# Altium schematic symbol library con-amp-micromatch-8-vias.SCHLIB: 108 symbols (part 1 of 3)
Pins are listed as number, name and electrical type; pins without a type are passive.

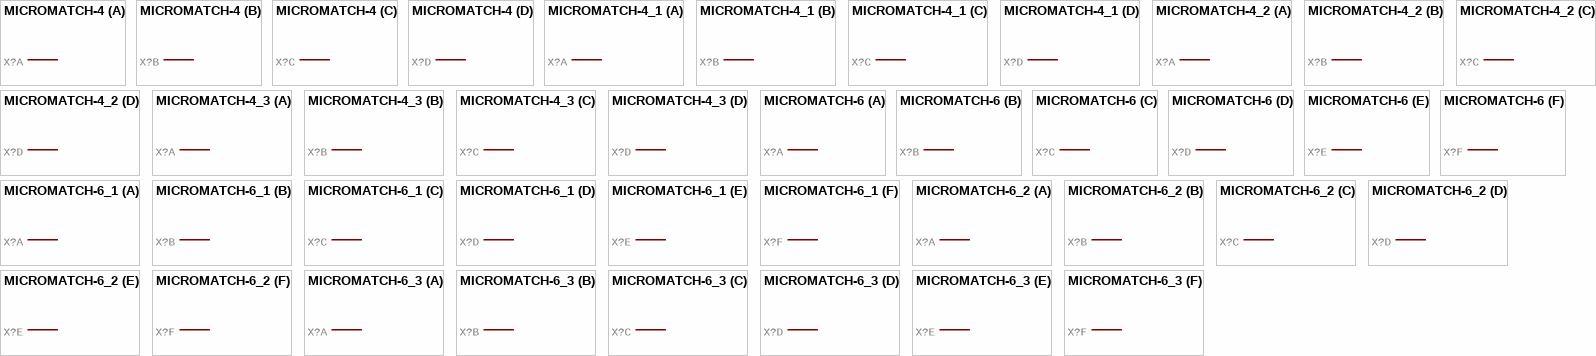
[diagram p0: symbols MICROMATCH-4 to MICROMATCH-6_3]

## MICROMATCH-4
designator X?, comment MicroMaTch 4  7-215464-4 / 0-215464-4   Drawing Number C-215464 DDEController.pdf  (value not drawn)
GateName_1: -1; SymbolName_1: MV; GateName_2: -2; SymbolName_2: M; GateName_3: -3; GateName_4: -4; DeviceSetName: MICROMATCH-4; SymbolName_3: M; SymbolName_4: M; LibraryName: con-amp-micromatch-8-vias; Package: MICROMATCH-4; MPN: 7-215464-4; OC_FARNELL: 3784629; OC_NEWARK: 19R8124
footprint MICROMATCH-4
part A pins: 1 S
part B pins: 2 S
part C pins: 3 S
part D pins: 4 S

## MICROMATCH-4_1
designator X?, comment MicroMaTch 4  7-215464-4 / 0-215464-4   Drawing Number C-215464 DDEController.pdf  (value not drawn)
GateName_1: -1; SymbolName_1: MV; GateName_2: -2; SymbolName_2: M; GateName_3: -3; GateName_4: -4; DeviceSetName: MICROMATCH-4; SymbolName_3: M; SymbolName_4: M; LibraryName: con-amp-micromatch-8-vias; Package: MICROMATCH-4; MPN: 7-215464-4; OC_FARNELL: 3784629; OC_NEWARK: 19R8124
footprint MICROMATCH-4
part A pins: 1 S
part B pins: 2 S
part C pins: 3 S
part D pins: 4 S

## MICROMATCH-4_2
designator X?, comment MicroMaTch 4  7-215464-4 / 0-215464-4   Drawing Number C-215464 DDEController.pdf  (value not drawn)
GateName_1: -1; SymbolName_1: MV; GateName_2: -2; SymbolName_2: M; GateName_3: -3; GateName_4: -4; DeviceSetName: MICROMATCH-4; SymbolName_3: M; SymbolName_4: M; LibraryName: con-amp-micromatch-8-vias; Package: MICROMATCH-4; MPN: 7-215464-4; OC_FARNELL: 3784629; OC_NEWARK: 19R8124
footprint MICROMATCH-4
part A pins: 1 S
part B pins: 2 S
part C pins: 3 S
part D pins: 4 S

## MICROMATCH-4_3
designator X?, comment MicroMaTch 4  7-215464-4 / 0-215464-4   Drawing Number C-215464 DDEController.pdf  (value not drawn)
GateName_1: -1; SymbolName_1: MV; GateName_2: -2; SymbolName_2: M; GateName_3: -3; GateName_4: -4; DeviceSetName: MICROMATCH-4; SymbolName_3: M; SymbolName_4: M; LibraryName: con-amp-micromatch-8-vias; Package: MICROMATCH-4; MPN: 7-215464-4; OC_FARNELL: 3784629; OC_NEWARK: 19R8124
footprint MICROMATCH-4
part A pins: 1 S
part B pins: 2 S
part C pins: 3 S
part D pins: 4 S

## MICROMATCH-6
designator X?, comment MicroMaTch 6  7-215464-6 / 0-215464-6   Drawing Number C-215464 DDEController.pdf  (value not drawn)
GateName_1: -1; SymbolName_1: MV; GateName_2: -2; SymbolName_2: M; GateName_3: -3; GateName_4: -4; GateName_5: -5; GateName_6: -6; DeviceSetName: MICROMATCH-6; SymbolName_3: M; SymbolName_4: M; SymbolName_5: M; SymbolName_6: M; LibraryName: con-amp-micromatch-8-vias; Package: MICROMATCH-6; MPN: 7-215464-6; OC_FARNELL: 3784630; OC_NEWARK: 19R8125
footprint MICROMATCH-6
part A pins: 1 S
part B pins: 2 S
part C pins: 3 S
part D pins: 4 S
part E pins: 5 S
part F pins: 6 S

## MICROMATCH-6_1
designator X?, comment MicroMaTch 6  7-215464-6 / 0-215464-6   Drawing Number C-215464 DDEController.pdf  (value not drawn)
GateName_1: -1; SymbolName_1: MV; GateName_2: -2; SymbolName_2: M; GateName_3: -3; GateName_4: -4; GateName_5: -5; GateName_6: -6; DeviceSetName: MICROMATCH-6; SymbolName_3: M; SymbolName_4: M; SymbolName_5: M; SymbolName_6: M; LibraryName: con-amp-micromatch-8-vias; Package: MICROMATCH-6; MPN: 7-215464-6; OC_FARNELL: 3784630; OC_NEWARK: 19R8125
footprint MICROMATCH-6
part A pins: 1 S
part B pins: 2 S
part C pins: 3 S
part D pins: 4 S
part E pins: 5 S
part F pins: 6 S

## MICROMATCH-6_2
designator X?, comment MicroMaTch 6  7-215464-6 / 0-215464-6   Drawing Number C-215464 DDEController.pdf  (value not drawn)
GateName_1: -1; SymbolName_1: MV; GateName_2: -2; SymbolName_2: M; GateName_3: -3; GateName_4: -4; GateName_5: -5; GateName_6: -6; DeviceSetName: MICROMATCH-6; SymbolName_3: M; SymbolName_4: M; SymbolName_5: M; SymbolName_6: M; LibraryName: con-amp-micromatch-8-vias; Package: MICROMATCH-6; MPN: 7-215464-6; OC_FARNELL: 3784630; OC_NEWARK: 19R8125
footprint MICROMATCH-6
part A pins: 1 S
part B pins: 2 S
part C pins: 3 S
part D pins: 4 S
part E pins: 5 S
part F pins: 6 S

## MICROMATCH-6_3
designator X?, comment MicroMaTch 6  7-215464-6 / 0-215464-6   Drawing Number C-215464 DDEController.pdf  (value not drawn)
GateName_1: -1; SymbolName_1: MV; GateName_2: -2; SymbolName_2: M; GateName_3: -3; GateName_4: -4; GateName_5: -5; GateName_6: -6; DeviceSetName: MICROMATCH-6; SymbolName_3: M; SymbolName_4: M; SymbolName_5: M; SymbolName_6: M; LibraryName: con-amp-micromatch-8-vias; Package: MICROMATCH-6; MPN: 7-215464-6; OC_FARNELL: 3784630; OC_NEWARK: 19R8125
footprint MICROMATCH-6
part A pins: 1 S
part B pins: 2 S
part C pins: 3 S
part D pins: 4 S
part E pins: 5 S
part F pins: 6 S

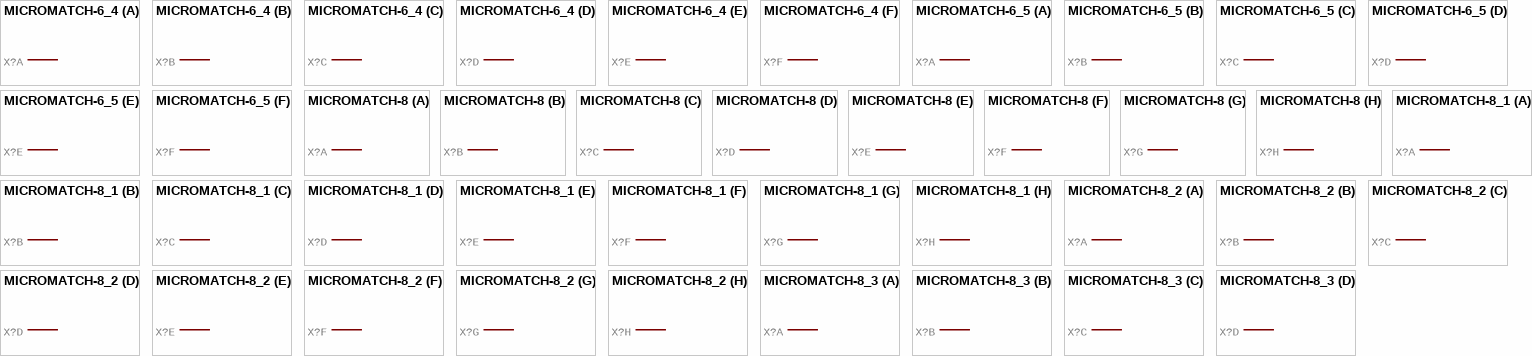
[diagram p1: symbols MICROMATCH-6_4 to MICROMATCH-8_3]

## MICROMATCH-6_4
designator X?, comment MicroMaTch 6  7-215464-6 / 0-215464-6   Drawing Number C-215464 DDEController.pdf  (value not drawn)
GateName_1: -1; SymbolName_1: MV; GateName_2: -2; SymbolName_2: M; GateName_3: -3; GateName_4: -4; GateName_5: -5; GateName_6: -6; DeviceSetName: MICROMATCH-6; SymbolName_3: M; SymbolName_4: M; SymbolName_5: M; SymbolName_6: M; LibraryName: con-amp-micromatch-8-vias; Package: MICROMATCH-6; MPN: 7-215464-6; OC_FARNELL: 3784630; OC_NEWARK: 19R8125
footprint MICROMATCH-6
part A pins: 1 S
part B pins: 2 S
part C pins: 3 S
part D pins: 4 S
part E pins: 5 S
part F pins: 6 S

## MICROMATCH-6_5
designator X?, comment MicroMaTch 6  7-215464-6 / 0-215464-6   Drawing Number C-215464 DDEController.pdf  (value not drawn)
GateName_1: -1; SymbolName_1: MV; GateName_2: -2; SymbolName_2: M; GateName_3: -3; GateName_4: -4; GateName_5: -5; GateName_6: -6; DeviceSetName: MICROMATCH-6; SymbolName_3: M; SymbolName_4: M; SymbolName_5: M; SymbolName_6: M; LibraryName: con-amp-micromatch-8-vias; Package: MICROMATCH-6; MPN: 7-215464-6; OC_FARNELL: 3784630; OC_NEWARK: 19R8125
footprint MICROMATCH-6
part A pins: 1 S
part B pins: 2 S
part C pins: 3 S
part D pins: 4 S
part E pins: 5 S
part F pins: 6 S

## MICROMATCH-8
designator X?, comment MicroMaTch 8  7-215464-8 / 0-215464-8   Drawing Number C-215464 DDEController.pdf  (value not drawn)
GateName_1: -1; SymbolName_1: MV; GateName_2: -2; SymbolName_2: M; GateName_3: -3; GateName_4: -4; GateName_5: -5; GateName_6: -6; GateName_7: -7; GateName_8: -8; DeviceSetName: MICROMATCH-8; MF: FARNELL; SymbolName_3: M; SymbolName_4: M; SymbolName_5: M; SymbolName_6: M; SymbolName_7: M; SymbolName_8: M; LibraryName: con-amp-micromatch-8-vias; Package: MICROMATCH-8; MPN: 7-215464-8; OC_FARNELL: 3784642; OC_NEWARK: 26H0301
footprint MICROMATCH-8
part A pins: 1 S
part B pins: 2 S
part C pins: 3 S
part D pins: 4 S
part E pins: 5 S
part F pins: 6 S
part G pins: 7 S
part H pins: 8 S

## MICROMATCH-8_1
designator X?, comment MicroMaTch 8  7-215464-8 / 0-215464-8   Drawing Number C-215464 DDEController.pdf  (value not drawn)
GateName_1: -1; SymbolName_1: MV; GateName_2: -2; SymbolName_2: M; GateName_3: -3; GateName_4: -4; GateName_5: -5; GateName_6: -6; GateName_7: -7; GateName_8: -8; DeviceSetName: MICROMATCH-8; MF: FARNELL; SymbolName_3: M; SymbolName_4: M; SymbolName_5: M; SymbolName_6: M; SymbolName_7: M; SymbolName_8: M; LibraryName: con-amp-micromatch-8-vias; Package: MICROMATCH-8; MPN: 7-215464-8; OC_FARNELL: 3784642; OC_NEWARK: 26H0301
footprint MICROMATCH-8
part A pins: 1 S
part B pins: 2 S
part C pins: 3 S
part D pins: 4 S
part E pins: 5 S
part F pins: 6 S
part G pins: 7 S
part H pins: 8 S

## MICROMATCH-8_2
designator X?, comment MicroMaTch 8  7-215464-8 / 0-215464-8   Drawing Number C-215464 DDEController.pdf  (value not drawn)
GateName_1: -1; SymbolName_1: MV; GateName_2: -2; SymbolName_2: M; GateName_3: -3; GateName_4: -4; GateName_5: -5; GateName_6: -6; GateName_7: -7; GateName_8: -8; DeviceSetName: MICROMATCH-8; MF: FARNELL; SymbolName_3: M; SymbolName_4: M; SymbolName_5: M; SymbolName_6: M; SymbolName_7: M; SymbolName_8: M; LibraryName: con-amp-micromatch-8-vias; Package: MICROMATCH-8; MPN: 7-215464-8; OC_FARNELL: 3784642; OC_NEWARK: 26H0301
footprint MICROMATCH-8
part A pins: 1 S
part B pins: 2 S
part C pins: 3 S
part D pins: 4 S
part E pins: 5 S
part F pins: 6 S
part G pins: 7 S
part H pins: 8 S

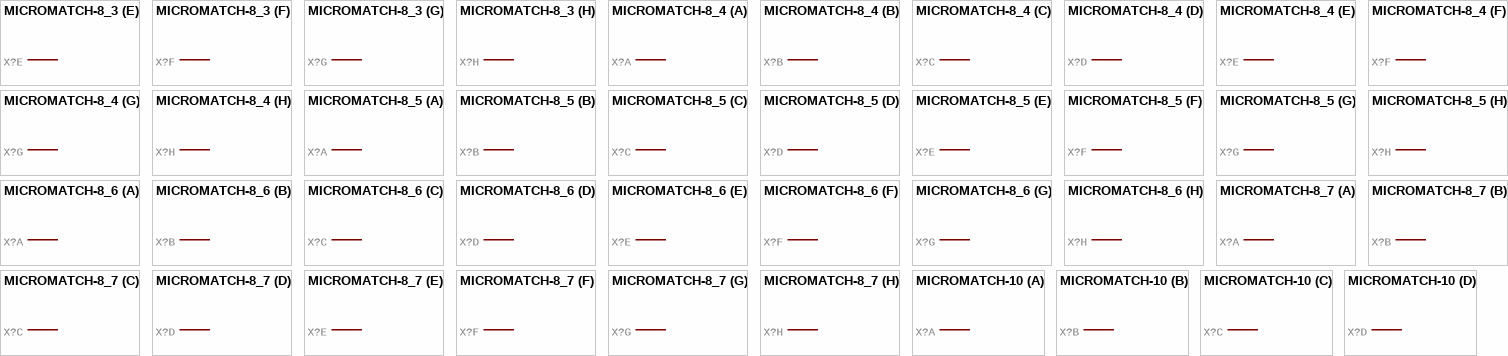
[diagram p2: symbols MICROMATCH-8_3 to MICROMATCH-10]

## MICROMATCH-8_3
designator X?, comment MicroMaTch 8  7-215464-8 / 0-215464-8   Drawing Number C-215464 DDEController.pdf  (value not drawn)
GateName_1: -1; SymbolName_1: MV; GateName_2: -2; SymbolName_2: M; GateName_3: -3; GateName_4: -4; GateName_5: -5; GateName_6: -6; GateName_7: -7; GateName_8: -8; DeviceSetName: MICROMATCH-8; MF: FARNELL; SymbolName_3: M; SymbolName_4: M; SymbolName_5: M; SymbolName_6: M; SymbolName_7: M; SymbolName_8: M; LibraryName: con-amp-micromatch-8-vias; Package: MICROMATCH-8; MPN: 7-215464-8; OC_FARNELL: 3784642; OC_NEWARK: 26H0301
footprint MICROMATCH-8
part A pins: 1 S
part B pins: 2 S
part C pins: 3 S
part D pins: 4 S
part E pins: 5 S
part F pins: 6 S
part G pins: 7 S
part H pins: 8 S

## MICROMATCH-8_4
designator X?, comment MicroMaTch 8  7-215464-8 / 0-215464-8   Drawing Number C-215464 DDEController.pdf  (value not drawn)
GateName_1: -1; SymbolName_1: MV; GateName_2: -2; SymbolName_2: M; GateName_3: -3; GateName_4: -4; GateName_5: -5; GateName_6: -6; GateName_7: -7; GateName_8: -8; DeviceSetName: MICROMATCH-8; MF: FARNELL; SymbolName_3: M; SymbolName_4: M; SymbolName_5: M; SymbolName_6: M; SymbolName_7: M; SymbolName_8: M; LibraryName: con-amp-micromatch-8-vias; Package: MICROMATCH-8; MPN: 7-215464-8; OC_FARNELL: 3784642; OC_NEWARK: 26H0301
footprint MICROMATCH-8
part A pins: 1 S
part B pins: 2 S
part C pins: 3 S
part D pins: 4 S
part E pins: 5 S
part F pins: 6 S
part G pins: 7 S
part H pins: 8 S

## MICROMATCH-8_5
designator X?, comment MicroMaTch 8  7-215464-8 / 0-215464-8   Drawing Number C-215464 DDEController.pdf  (value not drawn)
GateName_1: -1; SymbolName_1: MV; GateName_2: -2; SymbolName_2: M; GateName_3: -3; GateName_4: -4; GateName_5: -5; GateName_6: -6; GateName_7: -7; GateName_8: -8; DeviceSetName: MICROMATCH-8; MF: FARNELL; SymbolName_3: M; SymbolName_4: M; SymbolName_5: M; SymbolName_6: M; SymbolName_7: M; SymbolName_8: M; LibraryName: con-amp-micromatch-8-vias; Package: MICROMATCH-8; MPN: 7-215464-8; OC_FARNELL: 3784642; OC_NEWARK: 26H0301
footprint MICROMATCH-8
part A pins: 1 S
part B pins: 2 S
part C pins: 3 S
part D pins: 4 S
part E pins: 5 S
part F pins: 6 S
part G pins: 7 S
part H pins: 8 S

## MICROMATCH-8_6
designator X?, comment MicroMaTch 8  7-215464-8 / 0-215464-8   Drawing Number C-215464 DDEController.pdf  (value not drawn)
GateName_1: -1; SymbolName_1: MV; GateName_2: -2; SymbolName_2: M; GateName_3: -3; GateName_4: -4; GateName_5: -5; GateName_6: -6; GateName_7: -7; GateName_8: -8; DeviceSetName: MICROMATCH-8; MF: FARNELL; SymbolName_3: M; SymbolName_4: M; SymbolName_5: M; SymbolName_6: M; SymbolName_7: M; SymbolName_8: M; LibraryName: con-amp-micromatch-8-vias; Package: MICROMATCH-8; MPN: 7-215464-8; OC_FARNELL: 3784642; OC_NEWARK: 26H0301
footprint MICROMATCH-8
part A pins: 1 S
part B pins: 2 S
part C pins: 3 S
part D pins: 4 S
part E pins: 5 S
part F pins: 6 S
part G pins: 7 S
part H pins: 8 S

## MICROMATCH-8_7
designator X?, comment MicroMaTch 8  7-215464-8 / 0-215464-8   Drawing Number C-215464 DDEController.pdf  (value not drawn)
GateName_1: -1; SymbolName_1: MV; GateName_2: -2; SymbolName_2: M; GateName_3: -3; GateName_4: -4; GateName_5: -5; GateName_6: -6; GateName_7: -7; GateName_8: -8; DeviceSetName: MICROMATCH-8; MF: FARNELL; SymbolName_3: M; SymbolName_4: M; SymbolName_5: M; SymbolName_6: M; SymbolName_7: M; SymbolName_8: M; LibraryName: con-amp-micromatch-8-vias; Package: MICROMATCH-8; MPN: 7-215464-8; OC_FARNELL: 3784642; OC_NEWARK: 26H0301
footprint MICROMATCH-8
part A pins: 1 S
part B pins: 2 S
part C pins: 3 S
part D pins: 4 S
part E pins: 5 S
part F pins: 6 S
part G pins: 7 S
part H pins: 8 S

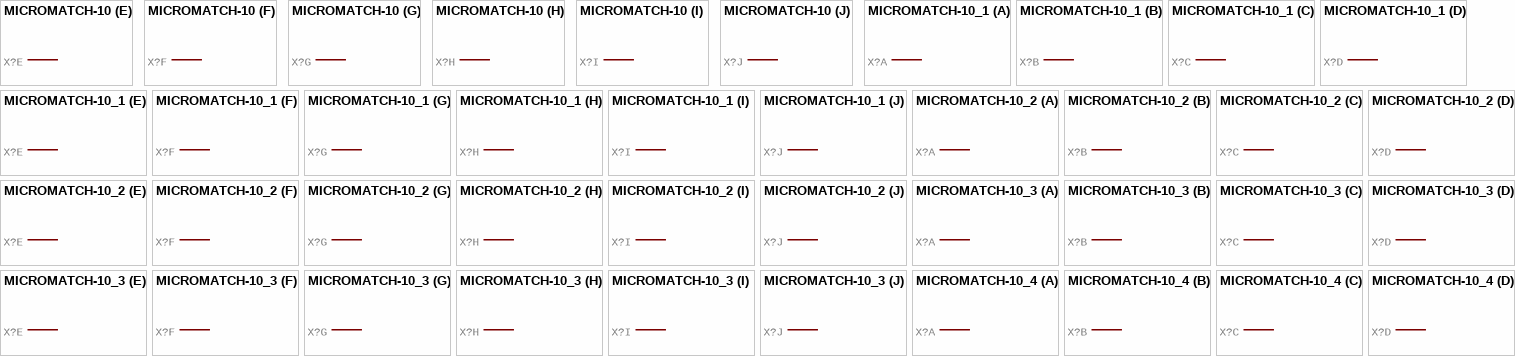
[diagram p3: symbols MICROMATCH-10 to MICROMATCH-10_4]

## MICROMATCH-10
designator X?, comment MicroMaTch 10  8-215464-0 / 1-215464-0   Drawing Number C-215464 DDEController.pdf  (value not drawn)
GateName_1: -1; SymbolName_1: MV; GateName_2: -2; SymbolName_2: M; GateName_3: -3; GateName_4: -4; GateName_5: -5; GateName_6: -6; GateName_7: -7; GateName_8: -8; GateName_9: -9; GateName_10: -10; DeviceSetName: MICROMATCH-10; MF: FARNELL; SymbolName_3: M; SymbolName_4: M; SymbolName_5: M; SymbolName_6: M; SymbolName_7: M; SymbolName_8: M; SymbolName_9: M; SymbolName_10: M; LibraryName: con-amp-micromatch-8-vias; Package: MICROMATCH-10; MPN: 8-215464-0; OC_FARNELL: 3784654; OC_NEWARK: 19J6430
footprint MICROMATCH-10
part A pins: 1 S
part B pins: 2 S
part C pins: 3 S
part D pins: 4 S
part E pins: 5 S
part F pins: 6 S
part G pins: 7 S
part H pins: 8 S
part I pins: 9 S
part J pins: 10 S

## MICROMATCH-10_1
designator X?, comment MicroMaTch 10  8-215464-0 / 1-215464-0   Drawing Number C-215464 DDEController.pdf  (value not drawn)
GateName_1: -1; SymbolName_1: MV; GateName_2: -2; SymbolName_2: M; GateName_3: -3; GateName_4: -4; GateName_5: -5; GateName_6: -6; GateName_7: -7; GateName_8: -8; GateName_9: -9; GateName_10: -10; DeviceSetName: MICROMATCH-10; MF: FARNELL; SymbolName_3: M; SymbolName_4: M; SymbolName_5: M; SymbolName_6: M; SymbolName_7: M; SymbolName_8: M; SymbolName_9: M; SymbolName_10: M; LibraryName: con-amp-micromatch-8-vias; Package: MICROMATCH-10; MPN: 8-215464-0; OC_FARNELL: 3784654; OC_NEWARK: 19J6430
footprint MICROMATCH-10
part A pins: 1 S
part B pins: 2 S
part C pins: 3 S
part D pins: 4 S
part E pins: 5 S
part F pins: 6 S
part G pins: 7 S
part H pins: 8 S
part I pins: 9 S
part J pins: 10 S

## MICROMATCH-10_2
designator X?, comment MicroMaTch 10  8-215464-0 / 1-215464-0   Drawing Number C-215464 DDEController.pdf  (value not drawn)
GateName_1: -1; SymbolName_1: MV; GateName_2: -2; SymbolName_2: M; GateName_3: -3; GateName_4: -4; GateName_5: -5; GateName_6: -6; GateName_7: -7; GateName_8: -8; GateName_9: -9; GateName_10: -10; DeviceSetName: MICROMATCH-10; MF: FARNELL; SymbolName_3: M; SymbolName_4: M; SymbolName_5: M; SymbolName_6: M; SymbolName_7: M; SymbolName_8: M; SymbolName_9: M; SymbolName_10: M; LibraryName: con-amp-micromatch-8-vias; Package: MICROMATCH-10; MPN: 8-215464-0; OC_FARNELL: 3784654; OC_NEWARK: 19J6430
footprint MICROMATCH-10
part A pins: 1 S
part B pins: 2 S
part C pins: 3 S
part D pins: 4 S
part E pins: 5 S
part F pins: 6 S
part G pins: 7 S
part H pins: 8 S
part I pins: 9 S
part J pins: 10 S

## MICROMATCH-10_3
designator X?, comment MicroMaTch 10  8-215464-0 / 1-215464-0   Drawing Number C-215464 DDEController.pdf  (value not drawn)
GateName_1: -1; SymbolName_1: MV; GateName_2: -2; SymbolName_2: M; GateName_3: -3; GateName_4: -4; GateName_5: -5; GateName_6: -6; GateName_7: -7; GateName_8: -8; GateName_9: -9; GateName_10: -10; DeviceSetName: MICROMATCH-10; MF: FARNELL; SymbolName_3: M; SymbolName_4: M; SymbolName_5: M; SymbolName_6: M; SymbolName_7: M; SymbolName_8: M; SymbolName_9: M; SymbolName_10: M; LibraryName: con-amp-micromatch-8-vias; Package: MICROMATCH-10; MPN: 8-215464-0; OC_FARNELL: 3784654; OC_NEWARK: 19J6430
footprint MICROMATCH-10
part A pins: 1 S
part B pins: 2 S
part C pins: 3 S
part D pins: 4 S
part E pins: 5 S
part F pins: 6 S
part G pins: 7 S
part H pins: 8 S
part I pins: 9 S
part J pins: 10 S

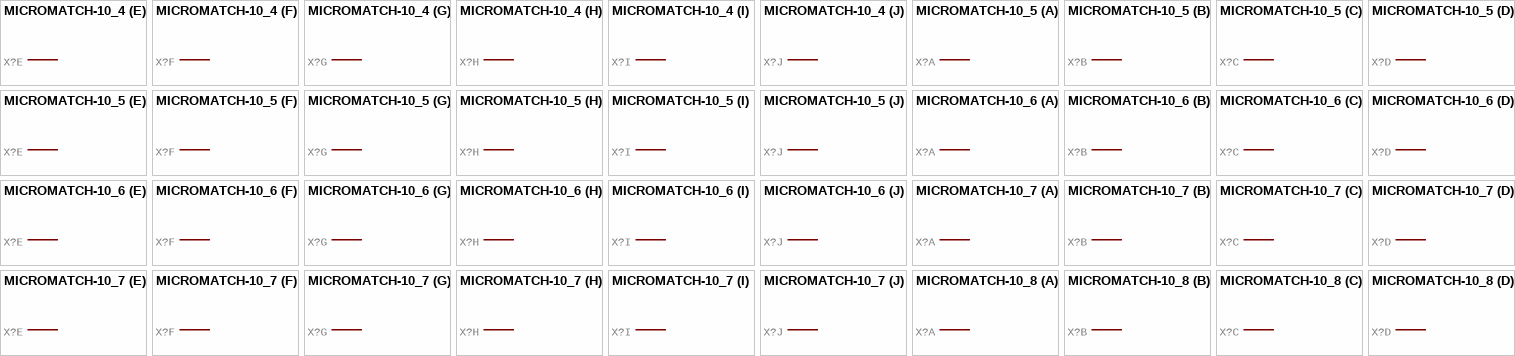
[diagram p4: symbols MICROMATCH-10_4 to MICROMATCH-10_8]

## MICROMATCH-10_4
designator X?, comment MicroMaTch 10  8-215464-0 / 1-215464-0   Drawing Number C-215464 DDEController.pdf  (value not drawn)
GateName_1: -1; SymbolName_1: MV; GateName_2: -2; SymbolName_2: M; GateName_3: -3; GateName_4: -4; GateName_5: -5; GateName_6: -6; GateName_7: -7; GateName_8: -8; GateName_9: -9; GateName_10: -10; DeviceSetName: MICROMATCH-10; MF: FARNELL; SymbolName_3: M; SymbolName_4: M; SymbolName_5: M; SymbolName_6: M; SymbolName_7: M; SymbolName_8: M; SymbolName_9: M; SymbolName_10: M; LibraryName: con-amp-micromatch-8-vias; Package: MICROMATCH-10; MPN: 8-215464-0; OC_FARNELL: 3784654; OC_NEWARK: 19J6430
footprint MICROMATCH-10
part A pins: 1 S
part B pins: 2 S
part C pins: 3 S
part D pins: 4 S
part E pins: 5 S
part F pins: 6 S
part G pins: 7 S
part H pins: 8 S
part I pins: 9 S
part J pins: 10 S

## MICROMATCH-10_5
designator X?, comment MicroMaTch 10  8-215464-0 / 1-215464-0   Drawing Number C-215464 DDEController.pdf  (value not drawn)
GateName_1: -1; SymbolName_1: MV; GateName_2: -2; SymbolName_2: M; GateName_3: -3; GateName_4: -4; GateName_5: -5; GateName_6: -6; GateName_7: -7; GateName_8: -8; GateName_9: -9; GateName_10: -10; DeviceSetName: MICROMATCH-10; MF: FARNELL; SymbolName_3: M; SymbolName_4: M; SymbolName_5: M; SymbolName_6: M; SymbolName_7: M; SymbolName_8: M; SymbolName_9: M; SymbolName_10: M; LibraryName: con-amp-micromatch-8-vias; Package: MICROMATCH-10; MPN: 8-215464-0; OC_FARNELL: 3784654; OC_NEWARK: 19J6430
footprint MICROMATCH-10
part A pins: 1 S
part B pins: 2 S
part C pins: 3 S
part D pins: 4 S
part E pins: 5 S
part F pins: 6 S
part G pins: 7 S
part H pins: 8 S
part I pins: 9 S
part J pins: 10 S

## MICROMATCH-10_6
designator X?, comment MicroMaTch 10  8-215464-0 / 1-215464-0   Drawing Number C-215464 DDEController.pdf  (value not drawn)
GateName_1: -1; SymbolName_1: MV; GateName_2: -2; SymbolName_2: M; GateName_3: -3; GateName_4: -4; GateName_5: -5; GateName_6: -6; GateName_7: -7; GateName_8: -8; GateName_9: -9; GateName_10: -10; DeviceSetName: MICROMATCH-10; MF: FARNELL; SymbolName_3: M; SymbolName_4: M; SymbolName_5: M; SymbolName_6: M; SymbolName_7: M; SymbolName_8: M; SymbolName_9: M; SymbolName_10: M; LibraryName: con-amp-micromatch-8-vias; Package: MICROMATCH-10; MPN: 8-215464-0; OC_FARNELL: 3784654; OC_NEWARK: 19J6430
footprint MICROMATCH-10
part A pins: 1 S
part B pins: 2 S
part C pins: 3 S
part D pins: 4 S
part E pins: 5 S
part F pins: 6 S
part G pins: 7 S
part H pins: 8 S
part I pins: 9 S
part J pins: 10 S

## MICROMATCH-10_7
designator X?, comment MicroMaTch 10  8-215464-0 / 1-215464-0   Drawing Number C-215464 DDEController.pdf  (value not drawn)
GateName_1: -1; SymbolName_1: MV; GateName_2: -2; SymbolName_2: M; GateName_3: -3; GateName_4: -4; GateName_5: -5; GateName_6: -6; GateName_7: -7; GateName_8: -8; GateName_9: -9; GateName_10: -10; DeviceSetName: MICROMATCH-10; MF: FARNELL; SymbolName_3: M; SymbolName_4: M; SymbolName_5: M; SymbolName_6: M; SymbolName_7: M; SymbolName_8: M; SymbolName_9: M; SymbolName_10: M; LibraryName: con-amp-micromatch-8-vias; Package: MICROMATCH-10; MPN: 8-215464-0; OC_FARNELL: 3784654; OC_NEWARK: 19J6430
footprint MICROMATCH-10
part A pins: 1 S
part B pins: 2 S
part C pins: 3 S
part D pins: 4 S
part E pins: 5 S
part F pins: 6 S
part G pins: 7 S
part H pins: 8 S
part I pins: 9 S
part J pins: 10 S

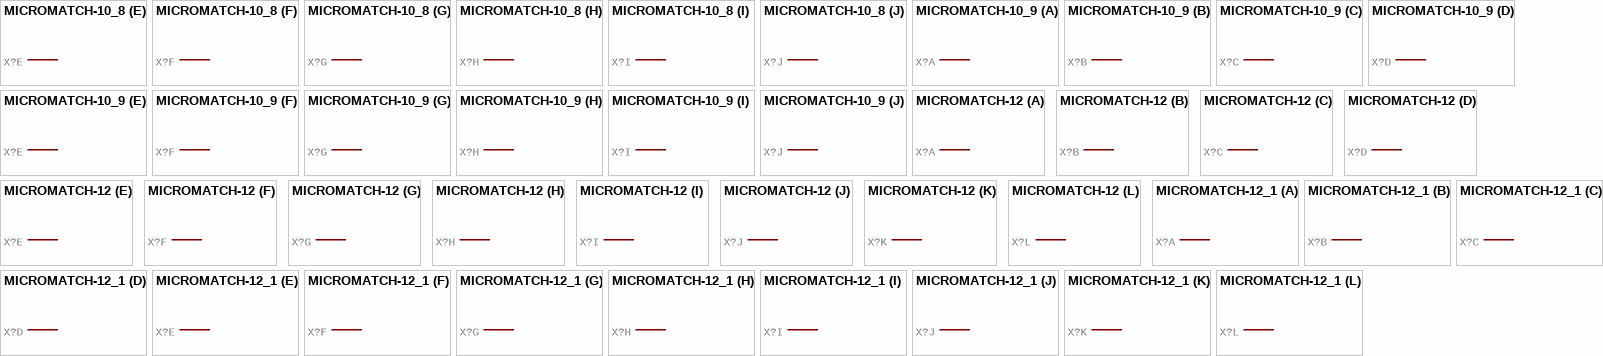
[diagram p5: symbols MICROMATCH-10_8 to MICROMATCH-12_1]

## MICROMATCH-10_8
designator X?, comment MicroMaTch 10  8-215464-0 / 1-215464-0   Drawing Number C-215464 DDEController.pdf  (value not drawn)
GateName_1: -1; SymbolName_1: MV; GateName_2: -2; SymbolName_2: M; GateName_3: -3; GateName_4: -4; GateName_5: -5; GateName_6: -6; GateName_7: -7; GateName_8: -8; GateName_9: -9; GateName_10: -10; DeviceSetName: MICROMATCH-10; MF: FARNELL; SymbolName_3: M; SymbolName_4: M; SymbolName_5: M; SymbolName_6: M; SymbolName_7: M; SymbolName_8: M; SymbolName_9: M; SymbolName_10: M; LibraryName: con-amp-micromatch-8-vias; Package: MICROMATCH-10; MPN: 8-215464-0; OC_FARNELL: 3784654; OC_NEWARK: 19J6430
footprint MICROMATCH-10
part A pins: 1 S
part B pins: 2 S
part C pins: 3 S
part D pins: 4 S
part E pins: 5 S
part F pins: 6 S
part G pins: 7 S
part H pins: 8 S
part I pins: 9 S
part J pins: 10 S

## MICROMATCH-10_9
designator X?, comment MicroMaTch 10  8-215464-0 / 1-215464-0   Drawing Number C-215464 DDEController.pdf  (value not drawn)
GateName_1: -1; SymbolName_1: MV; GateName_2: -2; SymbolName_2: M; GateName_3: -3; GateName_4: -4; GateName_5: -5; GateName_6: -6; GateName_7: -7; GateName_8: -8; GateName_9: -9; GateName_10: -10; DeviceSetName: MICROMATCH-10; MF: FARNELL; SymbolName_3: M; SymbolName_4: M; SymbolName_5: M; SymbolName_6: M; SymbolName_7: M; SymbolName_8: M; SymbolName_9: M; SymbolName_10: M; LibraryName: con-amp-micromatch-8-vias; Package: MICROMATCH-10; MPN: 8-215464-0; OC_FARNELL: 3784654; OC_NEWARK: 19J6430
footprint MICROMATCH-10
part A pins: 1 S
part B pins: 2 S
part C pins: 3 S
part D pins: 4 S
part E pins: 5 S
part F pins: 6 S
part G pins: 7 S
part H pins: 8 S
part I pins: 9 S
part J pins: 10 S

## MICROMATCH-12
designator X?, comment MicroMaTch 12  8-215464-2 / 1-215464-2   Drawing Number C-215464 DDEController.pdf  (value not drawn)
GateName_1: -1; SymbolName_1: MV; GateName_2: -2; SymbolName_2: M; GateName_3: -3; GateName_4: -4; GateName_5: -5; GateName_6: -6; GateName_7: -7; GateName_8: -8; GateName_9: -9; GateName_10: -10; GateName_11: -11; GateName_12: -12; DeviceSetName: MICROMATCH-12; MF: FARNELL; SymbolName_3: M; SymbolName_4: M; SymbolName_5: M; SymbolName_6: M; SymbolName_7: M; SymbolName_8: M; SymbolName_9: M; SymbolName_10: M; SymbolName_11: M; SymbolName_12: M; LibraryName: con-amp-micromatch-8-vias; Package: MICROMATCH-12; MPN: 8-215464-2; OC_FARNELL: 3784666; OC_NEWARK: 95H9857
footprint MICROMATCH-12
part A pins: 1 S
part B pins: 2 S
part C pins: 3 S
part D pins: 4 S
part E pins: 5 S
part F pins: 6 S
part G pins: 7 S
part H pins: 8 S
part I pins: 9 S
part J pins: 10 S
part K pins: 11 S
part L pins: 12 S

## MICROMATCH-12_1
designator X?, comment MicroMaTch 12  8-215464-2 / 1-215464-2   Drawing Number C-215464 DDEController.pdf  (value not drawn)
GateName_1: -1; SymbolName_1: MV; GateName_2: -2; SymbolName_2: M; GateName_3: -3; GateName_4: -4; GateName_5: -5; GateName_6: -6; GateName_7: -7; GateName_8: -8; GateName_9: -9; GateName_10: -10; GateName_11: -11; GateName_12: -12; DeviceSetName: MICROMATCH-12; MF: FARNELL; SymbolName_3: M; SymbolName_4: M; SymbolName_5: M; SymbolName_6: M; SymbolName_7: M; SymbolName_8: M; SymbolName_9: M; SymbolName_10: M; SymbolName_11: M; SymbolName_12: M; LibraryName: con-amp-micromatch-8-vias; Package: MICROMATCH-12; MPN: 8-215464-2; OC_FARNELL: 3784666; OC_NEWARK: 95H9857
footprint MICROMATCH-12
part A pins: 1 S
part B pins: 2 S
part C pins: 3 S
part D pins: 4 S
part E pins: 5 S
part F pins: 6 S
part G pins: 7 S
part H pins: 8 S
part I pins: 9 S
part J pins: 10 S
part K pins: 11 S
part L pins: 12 S

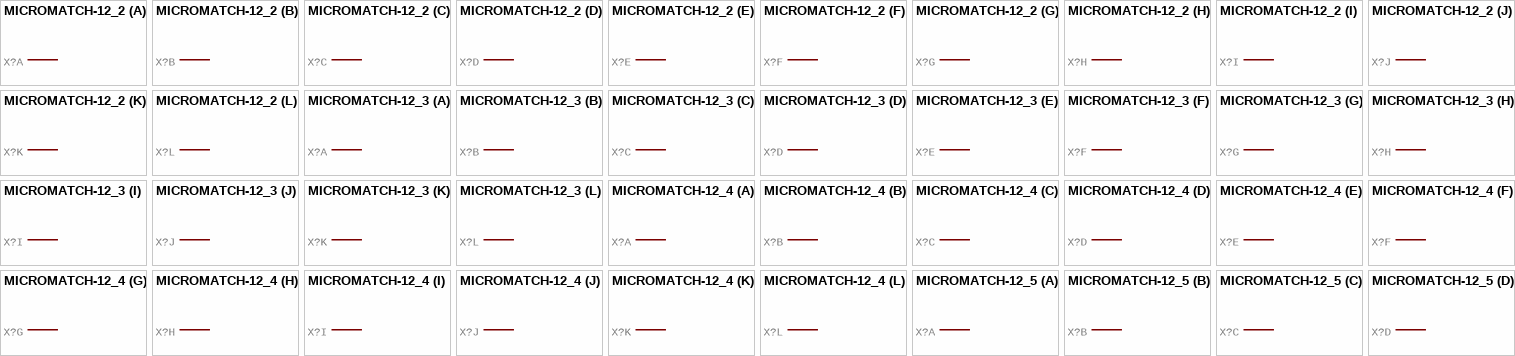
[diagram p6: symbols MICROMATCH-12_2 to MICROMATCH-12_5]

## MICROMATCH-12_2
designator X?, comment MicroMaTch 12  8-215464-2 / 1-215464-2   Drawing Number C-215464 DDEController.pdf  (value not drawn)
GateName_1: -1; SymbolName_1: MV; GateName_2: -2; SymbolName_2: M; GateName_3: -3; GateName_4: -4; GateName_5: -5; GateName_6: -6; GateName_7: -7; GateName_8: -8; GateName_9: -9; GateName_10: -10; GateName_11: -11; GateName_12: -12; DeviceSetName: MICROMATCH-12; MF: FARNELL; SymbolName_3: M; SymbolName_4: M; SymbolName_5: M; SymbolName_6: M; SymbolName_7: M; SymbolName_8: M; SymbolName_9: M; SymbolName_10: M; SymbolName_11: M; SymbolName_12: M; LibraryName: con-amp-micromatch-8-vias; Package: MICROMATCH-12; MPN: 8-215464-2; OC_FARNELL: 3784666; OC_NEWARK: 95H9857
footprint MICROMATCH-12
part A pins: 1 S
part B pins: 2 S
part C pins: 3 S
part D pins: 4 S
part E pins: 5 S
part F pins: 6 S
part G pins: 7 S
part H pins: 8 S
part I pins: 9 S
part J pins: 10 S
part K pins: 11 S
part L pins: 12 S

## MICROMATCH-12_3
designator X?, comment MicroMaTch 12  8-215464-2 / 1-215464-2   Drawing Number C-215464 DDEController.pdf  (value not drawn)
GateName_1: -1; SymbolName_1: MV; GateName_2: -2; SymbolName_2: M; GateName_3: -3; GateName_4: -4; GateName_5: -5; GateName_6: -6; GateName_7: -7; GateName_8: -8; GateName_9: -9; GateName_10: -10; GateName_11: -11; GateName_12: -12; DeviceSetName: MICROMATCH-12; MF: FARNELL; SymbolName_3: M; SymbolName_4: M; SymbolName_5: M; SymbolName_6: M; SymbolName_7: M; SymbolName_8: M; SymbolName_9: M; SymbolName_10: M; SymbolName_11: M; SymbolName_12: M; LibraryName: con-amp-micromatch-8-vias; Package: MICROMATCH-12; MPN: 8-215464-2; OC_FARNELL: 3784666; OC_NEWARK: 95H9857
footprint MICROMATCH-12
part A pins: 1 S
part B pins: 2 S
part C pins: 3 S
part D pins: 4 S
part E pins: 5 S
part F pins: 6 S
part G pins: 7 S
part H pins: 8 S
part I pins: 9 S
part J pins: 10 S
part K pins: 11 S
part L pins: 12 S

## MICROMATCH-12_4
designator X?, comment MicroMaTch 12  8-215464-2 / 1-215464-2   Drawing Number C-215464 DDEController.pdf  (value not drawn)
GateName_1: -1; SymbolName_1: MV; GateName_2: -2; SymbolName_2: M; GateName_3: -3; GateName_4: -4; GateName_5: -5; GateName_6: -6; GateName_7: -7; GateName_8: -8; GateName_9: -9; GateName_10: -10; GateName_11: -11; GateName_12: -12; DeviceSetName: MICROMATCH-12; MF: FARNELL; SymbolName_3: M; SymbolName_4: M; SymbolName_5: M; SymbolName_6: M; SymbolName_7: M; SymbolName_8: M; SymbolName_9: M; SymbolName_10: M; SymbolName_11: M; SymbolName_12: M; LibraryName: con-amp-micromatch-8-vias; Package: MICROMATCH-12; MPN: 8-215464-2; OC_FARNELL: 3784666; OC_NEWARK: 95H9857
footprint MICROMATCH-12
part A pins: 1 S
part B pins: 2 S
part C pins: 3 S
part D pins: 4 S
part E pins: 5 S
part F pins: 6 S
part G pins: 7 S
part H pins: 8 S
part I pins: 9 S
part J pins: 10 S
part K pins: 11 S
part L pins: 12 S

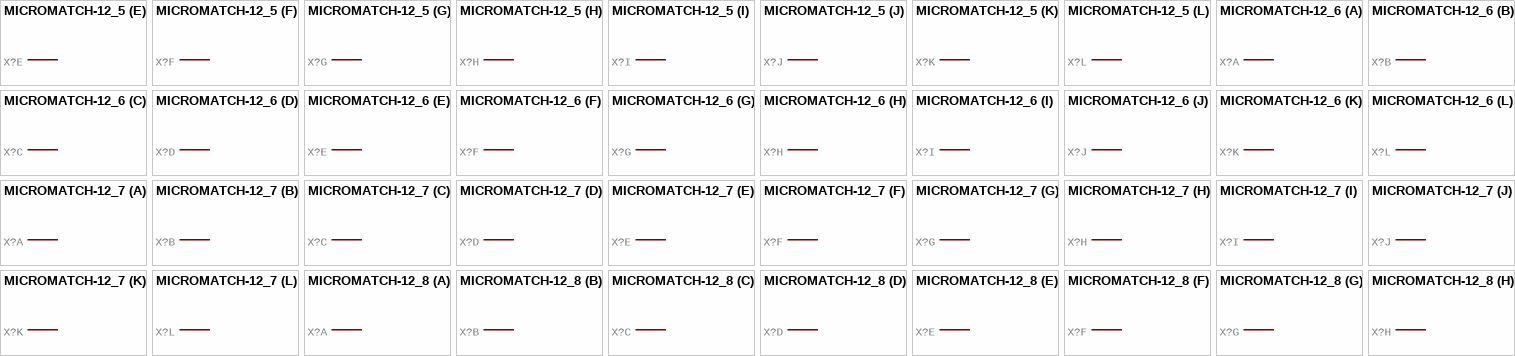
[diagram p7: symbols MICROMATCH-12_5 to MICROMATCH-12_8]

## MICROMATCH-12_5
designator X?, comment MicroMaTch 12  8-215464-2 / 1-215464-2   Drawing Number C-215464 DDEController.pdf  (value not drawn)
GateName_1: -1; SymbolName_1: MV; GateName_2: -2; SymbolName_2: M; GateName_3: -3; GateName_4: -4; GateName_5: -5; GateName_6: -6; GateName_7: -7; GateName_8: -8; GateName_9: -9; GateName_10: -10; GateName_11: -11; GateName_12: -12; DeviceSetName: MICROMATCH-12; MF: FARNELL; SymbolName_3: M; SymbolName_4: M; SymbolName_5: M; SymbolName_6: M; SymbolName_7: M; SymbolName_8: M; SymbolName_9: M; SymbolName_10: M; SymbolName_11: M; SymbolName_12: M; LibraryName: con-amp-micromatch-8-vias; Package: MICROMATCH-12; MPN: 8-215464-2; OC_FARNELL: 3784666; OC_NEWARK: 95H9857
footprint MICROMATCH-12
part A pins: 1 S
part B pins: 2 S
part C pins: 3 S
part D pins: 4 S
part E pins: 5 S
part F pins: 6 S
part G pins: 7 S
part H pins: 8 S
part I pins: 9 S
part J pins: 10 S
part K pins: 11 S
part L pins: 12 S

## MICROMATCH-12_6
designator X?, comment MicroMaTch 12  8-215464-2 / 1-215464-2   Drawing Number C-215464 DDEController.pdf  (value not drawn)
GateName_1: -1; SymbolName_1: MV; GateName_2: -2; SymbolName_2: M; GateName_3: -3; GateName_4: -4; GateName_5: -5; GateName_6: -6; GateName_7: -7; GateName_8: -8; GateName_9: -9; GateName_10: -10; GateName_11: -11; GateName_12: -12; DeviceSetName: MICROMATCH-12; MF: FARNELL; SymbolName_3: M; SymbolName_4: M; SymbolName_5: M; SymbolName_6: M; SymbolName_7: M; SymbolName_8: M; SymbolName_9: M; SymbolName_10: M; SymbolName_11: M; SymbolName_12: M; LibraryName: con-amp-micromatch-8-vias; Package: MICROMATCH-12; MPN: 8-215464-2; OC_FARNELL: 3784666; OC_NEWARK: 95H9857
footprint MICROMATCH-12
part A pins: 1 S
part B pins: 2 S
part C pins: 3 S
part D pins: 4 S
part E pins: 5 S
part F pins: 6 S
part G pins: 7 S
part H pins: 8 S
part I pins: 9 S
part J pins: 10 S
part K pins: 11 S
part L pins: 12 S

## MICROMATCH-12_7
designator X?, comment MicroMaTch 12  8-215464-2 / 1-215464-2   Drawing Number C-215464 DDEController.pdf  (value not drawn)
GateName_1: -1; SymbolName_1: MV; GateName_2: -2; SymbolName_2: M; GateName_3: -3; GateName_4: -4; GateName_5: -5; GateName_6: -6; GateName_7: -7; GateName_8: -8; GateName_9: -9; GateName_10: -10; GateName_11: -11; GateName_12: -12; DeviceSetName: MICROMATCH-12; MF: FARNELL; SymbolName_3: M; SymbolName_4: M; SymbolName_5: M; SymbolName_6: M; SymbolName_7: M; SymbolName_8: M; SymbolName_9: M; SymbolName_10: M; SymbolName_11: M; SymbolName_12: M; LibraryName: con-amp-micromatch-8-vias; Package: MICROMATCH-12; MPN: 8-215464-2; OC_FARNELL: 3784666; OC_NEWARK: 95H9857
footprint MICROMATCH-12
part A pins: 1 S
part B pins: 2 S
part C pins: 3 S
part D pins: 4 S
part E pins: 5 S
part F pins: 6 S
part G pins: 7 S
part H pins: 8 S
part I pins: 9 S
part J pins: 10 S
part K pins: 11 S
part L pins: 12 S

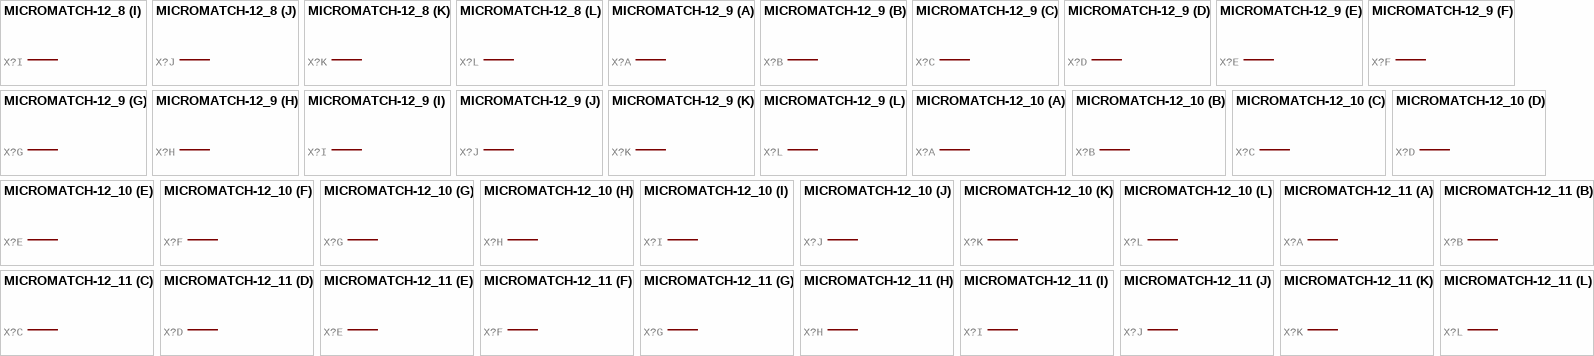
[diagram p8: symbols MICROMATCH-12_8 to MICROMATCH-12_11]

## MICROMATCH-12_8
designator X?, comment MicroMaTch 12  8-215464-2 / 1-215464-2   Drawing Number C-215464 DDEController.pdf  (value not drawn)
GateName_1: -1; SymbolName_1: MV; GateName_2: -2; SymbolName_2: M; GateName_3: -3; GateName_4: -4; GateName_5: -5; GateName_6: -6; GateName_7: -7; GateName_8: -8; GateName_9: -9; GateName_10: -10; GateName_11: -11; GateName_12: -12; DeviceSetName: MICROMATCH-12; MF: FARNELL; SymbolName_3: M; SymbolName_4: M; SymbolName_5: M; SymbolName_6: M; SymbolName_7: M; SymbolName_8: M; SymbolName_9: M; SymbolName_10: M; SymbolName_11: M; SymbolName_12: M; LibraryName: con-amp-micromatch-8-vias; Package: MICROMATCH-12; MPN: 8-215464-2; OC_FARNELL: 3784666; OC_NEWARK: 95H9857
footprint MICROMATCH-12
part A pins: 1 S
part B pins: 2 S
part C pins: 3 S
part D pins: 4 S
part E pins: 5 S
part F pins: 6 S
part G pins: 7 S
part H pins: 8 S
part I pins: 9 S
part J pins: 10 S
part K pins: 11 S
part L pins: 12 S

## MICROMATCH-12_9
designator X?, comment MicroMaTch 12  8-215464-2 / 1-215464-2   Drawing Number C-215464 DDEController.pdf  (value not drawn)
GateName_1: -1; SymbolName_1: MV; GateName_2: -2; SymbolName_2: M; GateName_3: -3; GateName_4: -4; GateName_5: -5; GateName_6: -6; GateName_7: -7; GateName_8: -8; GateName_9: -9; GateName_10: -10; GateName_11: -11; GateName_12: -12; DeviceSetName: MICROMATCH-12; MF: FARNELL; SymbolName_3: M; SymbolName_4: M; SymbolName_5: M; SymbolName_6: M; SymbolName_7: M; SymbolName_8: M; SymbolName_9: M; SymbolName_10: M; SymbolName_11: M; SymbolName_12: M; LibraryName: con-amp-micromatch-8-vias; Package: MICROMATCH-12; MPN: 8-215464-2; OC_FARNELL: 3784666; OC_NEWARK: 95H9857
footprint MICROMATCH-12
part A pins: 1 S
part B pins: 2 S
part C pins: 3 S
part D pins: 4 S
part E pins: 5 S
part F pins: 6 S
part G pins: 7 S
part H pins: 8 S
part I pins: 9 S
part J pins: 10 S
part K pins: 11 S
part L pins: 12 S

## MICROMATCH-12_10
designator X?, comment MicroMaTch 12  8-215464-2 / 1-215464-2   Drawing Number C-215464 DDEController.pdf  (value not drawn)
GateName_1: -1; SymbolName_1: MV; GateName_2: -2; SymbolName_2: M; GateName_3: -3; GateName_4: -4; GateName_5: -5; GateName_6: -6; GateName_7: -7; GateName_8: -8; GateName_9: -9; GateName_10: -10; GateName_11: -11; GateName_12: -12; DeviceSetName: MICROMATCH-12; MF: FARNELL; SymbolName_3: M; SymbolName_4: M; SymbolName_5: M; SymbolName_6: M; SymbolName_7: M; SymbolName_8: M; SymbolName_9: M; SymbolName_10: M; SymbolName_11: M; SymbolName_12: M; LibraryName: con-amp-micromatch-8-vias; Package: MICROMATCH-12; MPN: 8-215464-2; OC_FARNELL: 3784666; OC_NEWARK: 95H9857
footprint MICROMATCH-12
part A pins: 1 S
part B pins: 2 S
part C pins: 3 S
part D pins: 4 S
part E pins: 5 S
part F pins: 6 S
part G pins: 7 S
part H pins: 8 S
part I pins: 9 S
part J pins: 10 S
part K pins: 11 S
part L pins: 12 S

## MICROMATCH-12_11
designator X?, comment MicroMaTch 12  8-215464-2 / 1-215464-2   Drawing Number C-215464 DDEController.pdf  (value not drawn)
GateName_1: -1; SymbolName_1: MV; GateName_2: -2; SymbolName_2: M; GateName_3: -3; GateName_4: -4; GateName_5: -5; GateName_6: -6; GateName_7: -7; GateName_8: -8; GateName_9: -9; GateName_10: -10; GateName_11: -11; GateName_12: -12; DeviceSetName: MICROMATCH-12; MF: FARNELL; SymbolName_3: M; SymbolName_4: M; SymbolName_5: M; SymbolName_6: M; SymbolName_7: M; SymbolName_8: M; SymbolName_9: M; SymbolName_10: M; SymbolName_11: M; SymbolName_12: M; LibraryName: con-amp-micromatch-8-vias; Package: MICROMATCH-12; MPN: 8-215464-2; OC_FARNELL: 3784666; OC_NEWARK: 95H9857
footprint MICROMATCH-12
part A pins: 1 S
part B pins: 2 S
part C pins: 3 S
part D pins: 4 S
part E pins: 5 S
part F pins: 6 S
part G pins: 7 S
part H pins: 8 S
part I pins: 9 S
part J pins: 10 S
part K pins: 11 S
part L pins: 12 S

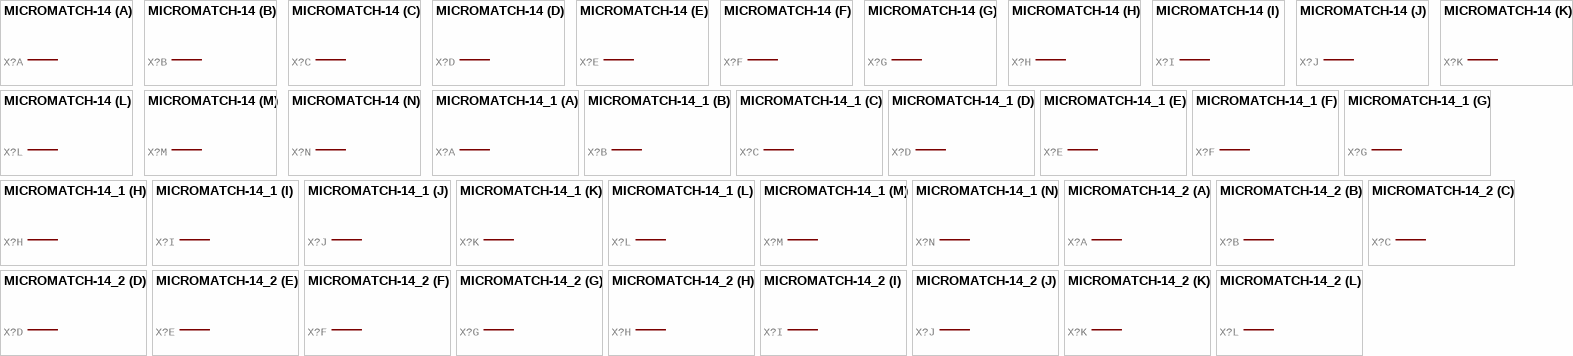
[diagram p9: symbols MICROMATCH-14 to MICROMATCH-14_2]

## MICROMATCH-14
designator X?, comment MicroMaTch 14  8-215464-4 / 1-215464-4   Drawing Number C-215464 DDEController.pdf  (value not drawn)
GateName_1: -1; SymbolName_1: MV; GateName_2: -2; SymbolName_2: M; GateName_3: -3; GateName_4: -4; GateName_5: -5; GateName_6: -6; GateName_7: -7; GateName_8: -8; GateName_9: -9; GateName_10: -10; GateName_11: -11; GateName_12: -12; GateName_13: -13; GateName_14: -14; DeviceSetName: MICROMATCH-14; MF: FARNELL; SymbolName_3: M; SymbolName_4: M; SymbolName_5: M; SymbolName_6: M; SymbolName_7: M; SymbolName_8: M; SymbolName_9: M; SymbolName_10: M; SymbolName_11: M; SymbolName_12: M; SymbolName_13: M; SymbolName_14: M; LibraryName: con-amp-micromatch-8-vias; Package: MICROMATCH-14; MPN: 8-215464-4; OC_FARNELL: 3784678; OC_NEWARK: 19J6431
footprint MICROMATCH-14
part A pins: 1 S
part B pins: 2 S
part C pins: 3 S
part D pins: 4 S
part E pins: 5 S
part F pins: 6 S
part G pins: 7 S
part H pins: 8 S
part I pins: 9 S
part J pins: 10 S
part K pins: 11 S
part L pins: 12 S
part M pins: 13 S
part N pins: 14 S

## MICROMATCH-14_1
designator X?, comment MicroMaTch 14  8-215464-4 / 1-215464-4   Drawing Number C-215464 DDEController.pdf  (value not drawn)
GateName_1: -1; SymbolName_1: MV; GateName_2: -2; SymbolName_2: M; GateName_3: -3; GateName_4: -4; GateName_5: -5; GateName_6: -6; GateName_7: -7; GateName_8: -8; GateName_9: -9; GateName_10: -10; GateName_11: -11; GateName_12: -12; GateName_13: -13; GateName_14: -14; DeviceSetName: MICROMATCH-14; MF: FARNELL; SymbolName_3: M; SymbolName_4: M; SymbolName_5: M; SymbolName_6: M; SymbolName_7: M; SymbolName_8: M; SymbolName_9: M; SymbolName_10: M; SymbolName_11: M; SymbolName_12: M; SymbolName_13: M; SymbolName_14: M; LibraryName: con-amp-micromatch-8-vias; Package: MICROMATCH-14; MPN: 8-215464-4; OC_FARNELL: 3784678; OC_NEWARK: 19J6431
footprint MICROMATCH-14
part A pins: 1 S
part B pins: 2 S
part C pins: 3 S
part D pins: 4 S
part E pins: 5 S
part F pins: 6 S
part G pins: 7 S
part H pins: 8 S
part I pins: 9 S
part J pins: 10 S
part K pins: 11 S
part L pins: 12 S
part M pins: 13 S
part N pins: 14 S

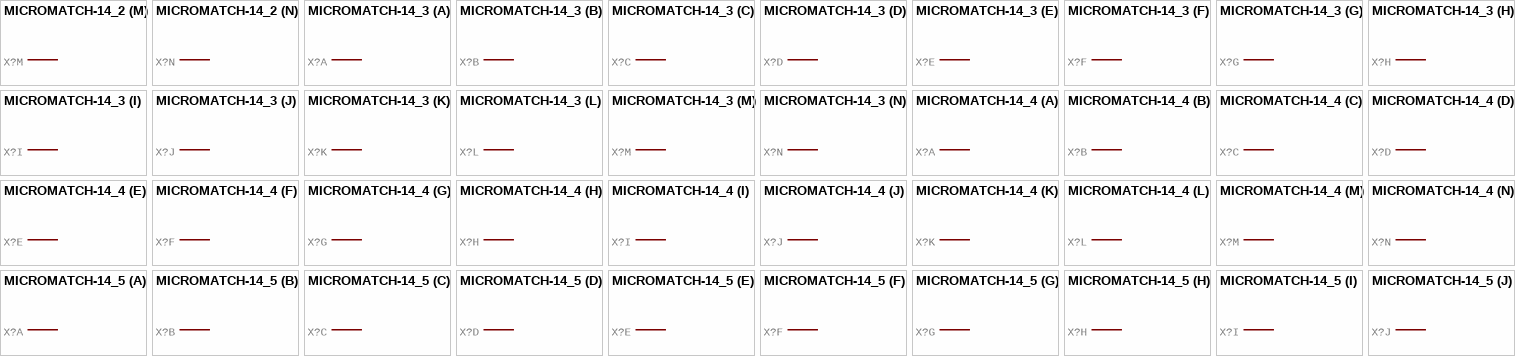
[diagram p10: symbols MICROMATCH-14_2 to MICROMATCH-14_5]

## MICROMATCH-14_2
designator X?, comment MicroMaTch 14  8-215464-4 / 1-215464-4   Drawing Number C-215464 DDEController.pdf  (value not drawn)
GateName_1: -1; SymbolName_1: MV; GateName_2: -2; SymbolName_2: M; GateName_3: -3; GateName_4: -4; GateName_5: -5; GateName_6: -6; GateName_7: -7; GateName_8: -8; GateName_9: -9; GateName_10: -10; GateName_11: -11; GateName_12: -12; GateName_13: -13; GateName_14: -14; DeviceSetName: MICROMATCH-14; MF: FARNELL; SymbolName_3: M; SymbolName_4: M; SymbolName_5: M; SymbolName_6: M; SymbolName_7: M; SymbolName_8: M; SymbolName_9: M; SymbolName_10: M; SymbolName_11: M; SymbolName_12: M; SymbolName_13: M; SymbolName_14: M; LibraryName: con-amp-micromatch-8-vias; Package: MICROMATCH-14; MPN: 8-215464-4; OC_FARNELL: 3784678; OC_NEWARK: 19J6431
footprint MICROMATCH-14
part A pins: 1 S
part B pins: 2 S
part C pins: 3 S
part D pins: 4 S
part E pins: 5 S
part F pins: 6 S
part G pins: 7 S
part H pins: 8 S
part I pins: 9 S
part J pins: 10 S
part K pins: 11 S
part L pins: 12 S
part M pins: 13 S
part N pins: 14 S

## MICROMATCH-14_3
designator X?, comment MicroMaTch 14  8-215464-4 / 1-215464-4   Drawing Number C-215464 DDEController.pdf  (value not drawn)
GateName_1: -1; SymbolName_1: MV; GateName_2: -2; SymbolName_2: M; GateName_3: -3; GateName_4: -4; GateName_5: -5; GateName_6: -6; GateName_7: -7; GateName_8: -8; GateName_9: -9; GateName_10: -10; GateName_11: -11; GateName_12: -12; GateName_13: -13; GateName_14: -14; DeviceSetName: MICROMATCH-14; MF: FARNELL; SymbolName_3: M; SymbolName_4: M; SymbolName_5: M; SymbolName_6: M; SymbolName_7: M; SymbolName_8: M; SymbolName_9: M; SymbolName_10: M; SymbolName_11: M; SymbolName_12: M; SymbolName_13: M; SymbolName_14: M; LibraryName: con-amp-micromatch-8-vias; Package: MICROMATCH-14; MPN: 8-215464-4; OC_FARNELL: 3784678; OC_NEWARK: 19J6431
footprint MICROMATCH-14
part A pins: 1 S
part B pins: 2 S
part C pins: 3 S
part D pins: 4 S
part E pins: 5 S
part F pins: 6 S
part G pins: 7 S
part H pins: 8 S
part I pins: 9 S
part J pins: 10 S
part K pins: 11 S
part L pins: 12 S
part M pins: 13 S
part N pins: 14 S

## MICROMATCH-14_4
designator X?, comment MicroMaTch 14  8-215464-4 / 1-215464-4   Drawing Number C-215464 DDEController.pdf  (value not drawn)
GateName_1: -1; SymbolName_1: MV; GateName_2: -2; SymbolName_2: M; GateName_3: -3; GateName_4: -4; GateName_5: -5; GateName_6: -6; GateName_7: -7; GateName_8: -8; GateName_9: -9; GateName_10: -10; GateName_11: -11; GateName_12: -12; GateName_13: -13; GateName_14: -14; DeviceSetName: MICROMATCH-14; MF: FARNELL; SymbolName_3: M; SymbolName_4: M; SymbolName_5: M; SymbolName_6: M; SymbolName_7: M; SymbolName_8: M; SymbolName_9: M; SymbolName_10: M; SymbolName_11: M; SymbolName_12: M; SymbolName_13: M; SymbolName_14: M; LibraryName: con-amp-micromatch-8-vias; Package: MICROMATCH-14; MPN: 8-215464-4; OC_FARNELL: 3784678; OC_NEWARK: 19J6431
footprint MICROMATCH-14
part A pins: 1 S
part B pins: 2 S
part C pins: 3 S
part D pins: 4 S
part E pins: 5 S
part F pins: 6 S
part G pins: 7 S
part H pins: 8 S
part I pins: 9 S
part J pins: 10 S
part K pins: 11 S
part L pins: 12 S
part M pins: 13 S
part N pins: 14 S

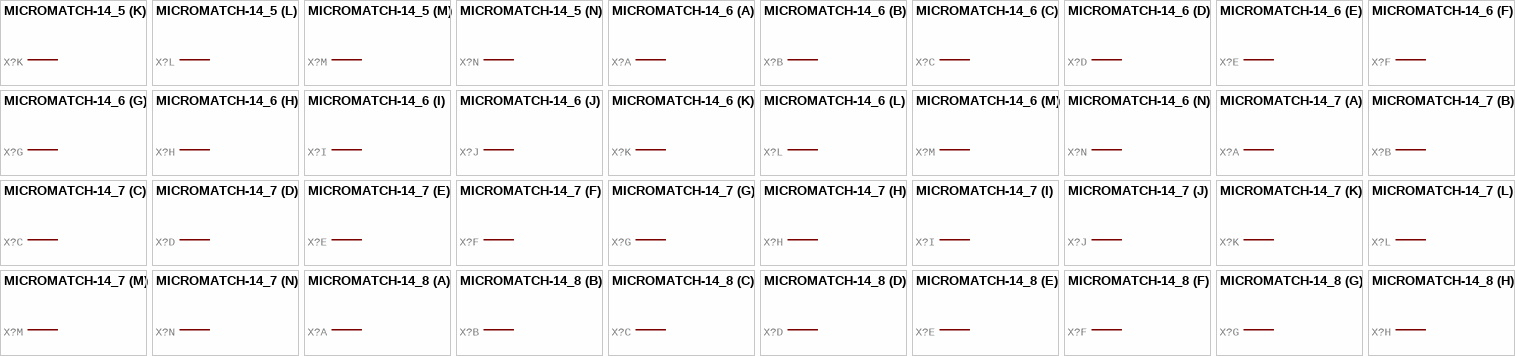
[diagram p11: symbols MICROMATCH-14_5 to MICROMATCH-14_8]

## MICROMATCH-14_5
designator X?, comment MicroMaTch 14  8-215464-4 / 1-215464-4   Drawing Number C-215464 DDEController.pdf  (value not drawn)
GateName_1: -1; SymbolName_1: MV; GateName_2: -2; SymbolName_2: M; GateName_3: -3; GateName_4: -4; GateName_5: -5; GateName_6: -6; GateName_7: -7; GateName_8: -8; GateName_9: -9; GateName_10: -10; GateName_11: -11; GateName_12: -12; GateName_13: -13; GateName_14: -14; DeviceSetName: MICROMATCH-14; MF: FARNELL; SymbolName_3: M; SymbolName_4: M; SymbolName_5: M; SymbolName_6: M; SymbolName_7: M; SymbolName_8: M; SymbolName_9: M; SymbolName_10: M; SymbolName_11: M; SymbolName_12: M; SymbolName_13: M; SymbolName_14: M; LibraryName: con-amp-micromatch-8-vias; Package: MICROMATCH-14; MPN: 8-215464-4; OC_FARNELL: 3784678; OC_NEWARK: 19J6431
footprint MICROMATCH-14
part A pins: 1 S
part B pins: 2 S
part C pins: 3 S
part D pins: 4 S
part E pins: 5 S
part F pins: 6 S
part G pins: 7 S
part H pins: 8 S
part I pins: 9 S
part J pins: 10 S
part K pins: 11 S
part L pins: 12 S
part M pins: 13 S
part N pins: 14 S

## MICROMATCH-14_6
designator X?, comment MicroMaTch 14  8-215464-4 / 1-215464-4   Drawing Number C-215464 DDEController.pdf  (value not drawn)
GateName_1: -1; SymbolName_1: MV; GateName_2: -2; SymbolName_2: M; GateName_3: -3; GateName_4: -4; GateName_5: -5; GateName_6: -6; GateName_7: -7; GateName_8: -8; GateName_9: -9; GateName_10: -10; GateName_11: -11; GateName_12: -12; GateName_13: -13; GateName_14: -14; DeviceSetName: MICROMATCH-14; MF: FARNELL; SymbolName_3: M; SymbolName_4: M; SymbolName_5: M; SymbolName_6: M; SymbolName_7: M; SymbolName_8: M; SymbolName_9: M; SymbolName_10: M; SymbolName_11: M; SymbolName_12: M; SymbolName_13: M; SymbolName_14: M; LibraryName: con-amp-micromatch-8-vias; Package: MICROMATCH-14; MPN: 8-215464-4; OC_FARNELL: 3784678; OC_NEWARK: 19J6431
footprint MICROMATCH-14
part A pins: 1 S
part B pins: 2 S
part C pins: 3 S
part D pins: 4 S
part E pins: 5 S
part F pins: 6 S
part G pins: 7 S
part H pins: 8 S
part I pins: 9 S
part J pins: 10 S
part K pins: 11 S
part L pins: 12 S
part M pins: 13 S
part N pins: 14 S

## MICROMATCH-14_7
designator X?, comment MicroMaTch 14  8-215464-4 / 1-215464-4   Drawing Number C-215464 DDEController.pdf  (value not drawn)
GateName_1: -1; SymbolName_1: MV; GateName_2: -2; SymbolName_2: M; GateName_3: -3; GateName_4: -4; GateName_5: -5; GateName_6: -6; GateName_7: -7; GateName_8: -8; GateName_9: -9; GateName_10: -10; GateName_11: -11; GateName_12: -12; GateName_13: -13; GateName_14: -14; DeviceSetName: MICROMATCH-14; MF: FARNELL; SymbolName_3: M; SymbolName_4: M; SymbolName_5: M; SymbolName_6: M; SymbolName_7: M; SymbolName_8: M; SymbolName_9: M; SymbolName_10: M; SymbolName_11: M; SymbolName_12: M; SymbolName_13: M; SymbolName_14: M; LibraryName: con-amp-micromatch-8-vias; Package: MICROMATCH-14; MPN: 8-215464-4; OC_FARNELL: 3784678; OC_NEWARK: 19J6431
footprint MICROMATCH-14
part A pins: 1 S
part B pins: 2 S
part C pins: 3 S
part D pins: 4 S
part E pins: 5 S
part F pins: 6 S
part G pins: 7 S
part H pins: 8 S
part I pins: 9 S
part J pins: 10 S
part K pins: 11 S
part L pins: 12 S
part M pins: 13 S
part N pins: 14 S

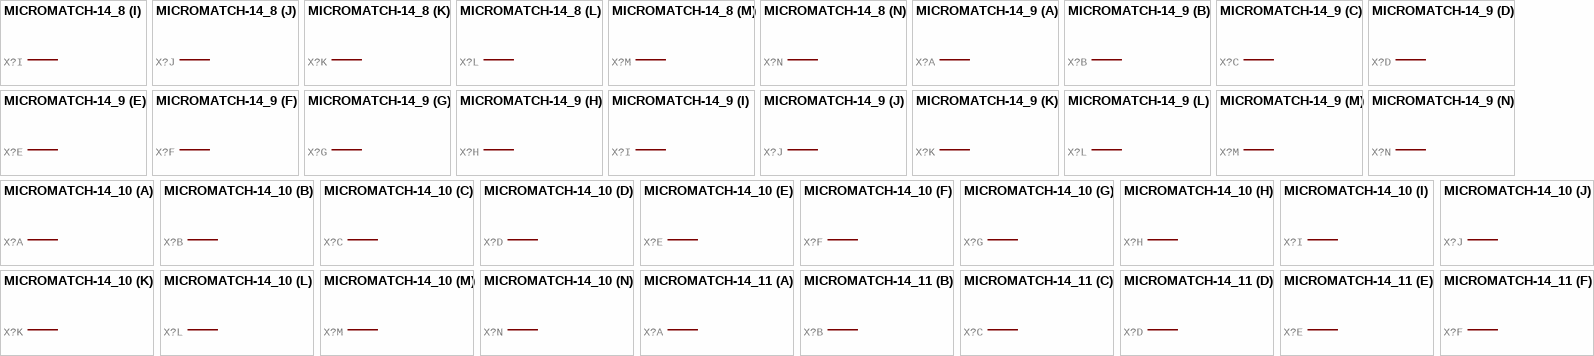
[diagram p12: symbols MICROMATCH-14_8 to MICROMATCH-14_11]

## MICROMATCH-14_8
designator X?, comment MicroMaTch 14  8-215464-4 / 1-215464-4   Drawing Number C-215464 DDEController.pdf  (value not drawn)
GateName_1: -1; SymbolName_1: MV; GateName_2: -2; SymbolName_2: M; GateName_3: -3; GateName_4: -4; GateName_5: -5; GateName_6: -6; GateName_7: -7; GateName_8: -8; GateName_9: -9; GateName_10: -10; GateName_11: -11; GateName_12: -12; GateName_13: -13; GateName_14: -14; DeviceSetName: MICROMATCH-14; MF: FARNELL; SymbolName_3: M; SymbolName_4: M; SymbolName_5: M; SymbolName_6: M; SymbolName_7: M; SymbolName_8: M; SymbolName_9: M; SymbolName_10: M; SymbolName_11: M; SymbolName_12: M; SymbolName_13: M; SymbolName_14: M; LibraryName: con-amp-micromatch-8-vias; Package: MICROMATCH-14; MPN: 8-215464-4; OC_FARNELL: 3784678; OC_NEWARK: 19J6431
footprint MICROMATCH-14
part A pins: 1 S
part B pins: 2 S
part C pins: 3 S
part D pins: 4 S
part E pins: 5 S
part F pins: 6 S
part G pins: 7 S
part H pins: 8 S
part I pins: 9 S
part J pins: 10 S
part K pins: 11 S
part L pins: 12 S
part M pins: 13 S
part N pins: 14 S

## MICROMATCH-14_9
designator X?, comment MicroMaTch 14  8-215464-4 / 1-215464-4   Drawing Number C-215464 DDEController.pdf  (value not drawn)
GateName_1: -1; SymbolName_1: MV; GateName_2: -2; SymbolName_2: M; GateName_3: -3; GateName_4: -4; GateName_5: -5; GateName_6: -6; GateName_7: -7; GateName_8: -8; GateName_9: -9; GateName_10: -10; GateName_11: -11; GateName_12: -12; GateName_13: -13; GateName_14: -14; DeviceSetName: MICROMATCH-14; MF: FARNELL; SymbolName_3: M; SymbolName_4: M; SymbolName_5: M; SymbolName_6: M; SymbolName_7: M; SymbolName_8: M; SymbolName_9: M; SymbolName_10: M; SymbolName_11: M; SymbolName_12: M; SymbolName_13: M; SymbolName_14: M; LibraryName: con-amp-micromatch-8-vias; Package: MICROMATCH-14; MPN: 8-215464-4; OC_FARNELL: 3784678; OC_NEWARK: 19J6431
footprint MICROMATCH-14
part A pins: 1 S
part B pins: 2 S
part C pins: 3 S
part D pins: 4 S
part E pins: 5 S
part F pins: 6 S
part G pins: 7 S
part H pins: 8 S
part I pins: 9 S
part J pins: 10 S
part K pins: 11 S
part L pins: 12 S
part M pins: 13 S
part N pins: 14 S

## MICROMATCH-14_10
designator X?, comment MicroMaTch 14  8-215464-4 / 1-215464-4   Drawing Number C-215464 DDEController.pdf  (value not drawn)
GateName_1: -1; SymbolName_1: MV; GateName_2: -2; SymbolName_2: M; GateName_3: -3; GateName_4: -4; GateName_5: -5; GateName_6: -6; GateName_7: -7; GateName_8: -8; GateName_9: -9; GateName_10: -10; GateName_11: -11; GateName_12: -12; GateName_13: -13; GateName_14: -14; DeviceSetName: MICROMATCH-14; MF: FARNELL; SymbolName_3: M; SymbolName_4: M; SymbolName_5: M; SymbolName_6: M; SymbolName_7: M; SymbolName_8: M; SymbolName_9: M; SymbolName_10: M; SymbolName_11: M; SymbolName_12: M; SymbolName_13: M; SymbolName_14: M; LibraryName: con-amp-micromatch-8-vias; Package: MICROMATCH-14; MPN: 8-215464-4; OC_FARNELL: 3784678; OC_NEWARK: 19J6431
footprint MICROMATCH-14
part A pins: 1 S
part B pins: 2 S
part C pins: 3 S
part D pins: 4 S
part E pins: 5 S
part F pins: 6 S
part G pins: 7 S
part H pins: 8 S
part I pins: 9 S
part J pins: 10 S
part K pins: 11 S
part L pins: 12 S
part M pins: 13 S
part N pins: 14 S

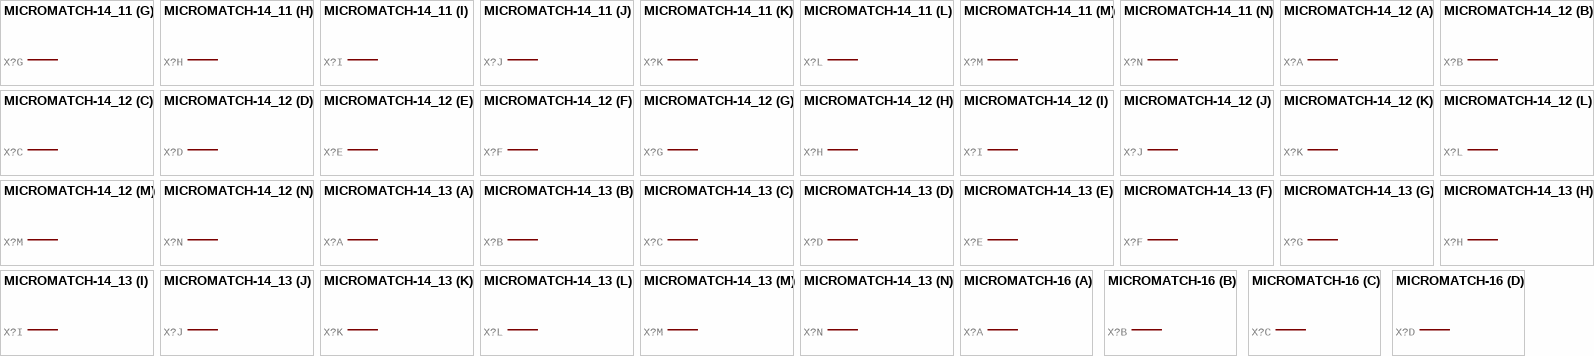
[diagram p13: symbols MICROMATCH-14_11 to MICROMATCH-16]

## MICROMATCH-14_11
designator X?, comment MicroMaTch 14  8-215464-4 / 1-215464-4   Drawing Number C-215464 DDEController.pdf  (value not drawn)
GateName_1: -1; SymbolName_1: MV; GateName_2: -2; SymbolName_2: M; GateName_3: -3; GateName_4: -4; GateName_5: -5; GateName_6: -6; GateName_7: -7; GateName_8: -8; GateName_9: -9; GateName_10: -10; GateName_11: -11; GateName_12: -12; GateName_13: -13; GateName_14: -14; DeviceSetName: MICROMATCH-14; MF: FARNELL; SymbolName_3: M; SymbolName_4: M; SymbolName_5: M; SymbolName_6: M; SymbolName_7: M; SymbolName_8: M; SymbolName_9: M; SymbolName_10: M; SymbolName_11: M; SymbolName_12: M; SymbolName_13: M; SymbolName_14: M; LibraryName: con-amp-micromatch-8-vias; Package: MICROMATCH-14; MPN: 8-215464-4; OC_FARNELL: 3784678; OC_NEWARK: 19J6431
footprint MICROMATCH-14
part A pins: 1 S
part B pins: 2 S
part C pins: 3 S
part D pins: 4 S
part E pins: 5 S
part F pins: 6 S
part G pins: 7 S
part H pins: 8 S
part I pins: 9 S
part J pins: 10 S
part K pins: 11 S
part L pins: 12 S
part M pins: 13 S
part N pins: 14 S

## MICROMATCH-14_12
designator X?, comment MicroMaTch 14  8-215464-4 / 1-215464-4   Drawing Number C-215464 DDEController.pdf  (value not drawn)
GateName_1: -1; SymbolName_1: MV; GateName_2: -2; SymbolName_2: M; GateName_3: -3; GateName_4: -4; GateName_5: -5; GateName_6: -6; GateName_7: -7; GateName_8: -8; GateName_9: -9; GateName_10: -10; GateName_11: -11; GateName_12: -12; GateName_13: -13; GateName_14: -14; DeviceSetName: MICROMATCH-14; MF: FARNELL; SymbolName_3: M; SymbolName_4: M; SymbolName_5: M; SymbolName_6: M; SymbolName_7: M; SymbolName_8: M; SymbolName_9: M; SymbolName_10: M; SymbolName_11: M; SymbolName_12: M; SymbolName_13: M; SymbolName_14: M; LibraryName: con-amp-micromatch-8-vias; Package: MICROMATCH-14; MPN: 8-215464-4; OC_FARNELL: 3784678; OC_NEWARK: 19J6431
footprint MICROMATCH-14
part A pins: 1 S
part B pins: 2 S
part C pins: 3 S
part D pins: 4 S
part E pins: 5 S
part F pins: 6 S
part G pins: 7 S
part H pins: 8 S
part I pins: 9 S
part J pins: 10 S
part K pins: 11 S
part L pins: 12 S
part M pins: 13 S
part N pins: 14 S

## MICROMATCH-14_13
designator X?, comment MicroMaTch 14  8-215464-4 / 1-215464-4   Drawing Number C-215464 DDEController.pdf  (value not drawn)
GateName_1: -1; SymbolName_1: MV; GateName_2: -2; SymbolName_2: M; GateName_3: -3; GateName_4: -4; GateName_5: -5; GateName_6: -6; GateName_7: -7; GateName_8: -8; GateName_9: -9; GateName_10: -10; GateName_11: -11; GateName_12: -12; GateName_13: -13; GateName_14: -14; DeviceSetName: MICROMATCH-14; MF: FARNELL; SymbolName_3: M; SymbolName_4: M; SymbolName_5: M; SymbolName_6: M; SymbolName_7: M; SymbolName_8: M; SymbolName_9: M; SymbolName_10: M; SymbolName_11: M; SymbolName_12: M; SymbolName_13: M; SymbolName_14: M; LibraryName: con-amp-micromatch-8-vias; Package: MICROMATCH-14; MPN: 8-215464-4; OC_FARNELL: 3784678; OC_NEWARK: 19J6431
footprint MICROMATCH-14
part A pins: 1 S
part B pins: 2 S
part C pins: 3 S
part D pins: 4 S
part E pins: 5 S
part F pins: 6 S
part G pins: 7 S
part H pins: 8 S
part I pins: 9 S
part J pins: 10 S
part K pins: 11 S
part L pins: 12 S
part M pins: 13 S
part N pins: 14 S

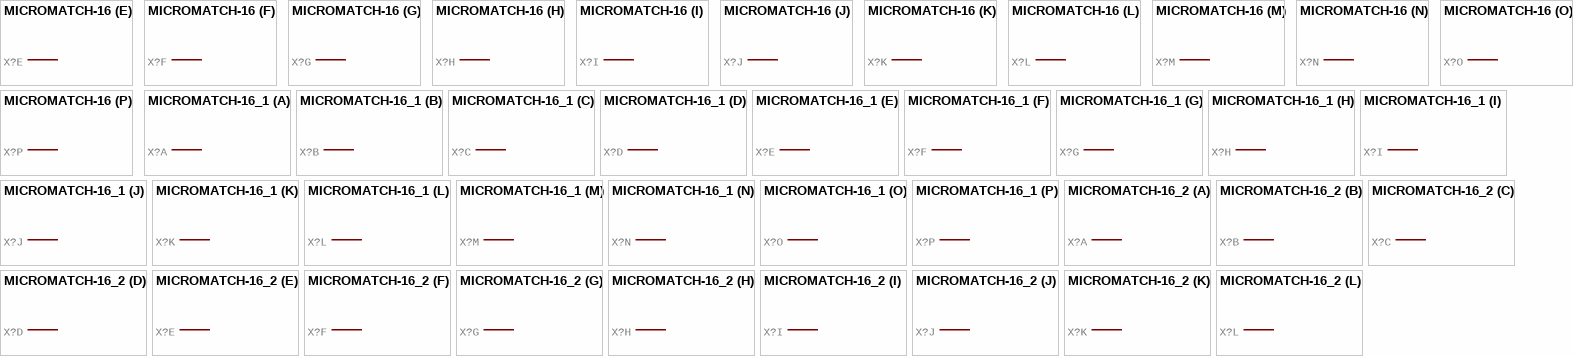
[diagram p14: symbols MICROMATCH-16 to MICROMATCH-16_2]

## MICROMATCH-16
designator X?, comment MicroMaTch 16  8-215464-6 / 1-215464-6   Drawing Number C-215464 DDEController.pdf  (value not drawn)
GateName_1: -1; SymbolName_1: MV; GateName_2: -2; SymbolName_2: M; GateName_3: -3; GateName_4: -4; GateName_5: -5; GateName_6: -6; GateName_7: -7; GateName_8: -8; GateName_9: -9; GateName_10: -10; GateName_11: -11; GateName_12: -12; GateName_13: -13; GateName_14: -14; GateName_15: -15; GateName_16: -16; DeviceSetName: MICROMATCH-16; MF: FARNELL; SymbolName_3: M; SymbolName_4: M; SymbolName_5: M; SymbolName_6: M; SymbolName_7: M; SymbolName_8: M; SymbolName_9: M; SymbolName_10: M; SymbolName_11: M; SymbolName_12: M; SymbolName_13: M; SymbolName_14: M; SymbolName_15: M; SymbolName_16: M; LibraryName: con-amp-micromatch-8-vias; Package: MICROMATCH-16; MPN: 8-215464-6; OC_FARNELL: 3784680; OC_NEWARK: 26H3309
footprint MICROMATCH-16
part A pins: 1 S
part B pins: 2 S
part C pins: 3 S
part D pins: 4 S
part E pins: 5 S
part F pins: 6 S
part G pins: 7 S
part H pins: 8 S
part I pins: 9 S
part J pins: 10 S
part K pins: 11 S
part L pins: 12 S
part M pins: 13 S
part N pins: 14 S
part O pins: 15 S
part P pins: 16 S

## MICROMATCH-16_1
designator X?, comment MicroMaTch 16  8-215464-6 / 1-215464-6   Drawing Number C-215464 DDEController.pdf  (value not drawn)
GateName_1: -1; SymbolName_1: MV; GateName_2: -2; SymbolName_2: M; GateName_3: -3; GateName_4: -4; GateName_5: -5; GateName_6: -6; GateName_7: -7; GateName_8: -8; GateName_9: -9; GateName_10: -10; GateName_11: -11; GateName_12: -12; GateName_13: -13; GateName_14: -14; GateName_15: -15; GateName_16: -16; DeviceSetName: MICROMATCH-16; MF: FARNELL; SymbolName_3: M; SymbolName_4: M; SymbolName_5: M; SymbolName_6: M; SymbolName_7: M; SymbolName_8: M; SymbolName_9: M; SymbolName_10: M; SymbolName_11: M; SymbolName_12: M; SymbolName_13: M; SymbolName_14: M; SymbolName_15: M; SymbolName_16: M; LibraryName: con-amp-micromatch-8-vias; Package: MICROMATCH-16; MPN: 8-215464-6; OC_FARNELL: 3784680; OC_NEWARK: 26H3309
footprint MICROMATCH-16
part A pins: 1 S
part B pins: 2 S
part C pins: 3 S
part D pins: 4 S
part E pins: 5 S
part F pins: 6 S
part G pins: 7 S
part H pins: 8 S
part I pins: 9 S
part J pins: 10 S
part K pins: 11 S
part L pins: 12 S
part M pins: 13 S
part N pins: 14 S
part O pins: 15 S
part P pins: 16 S

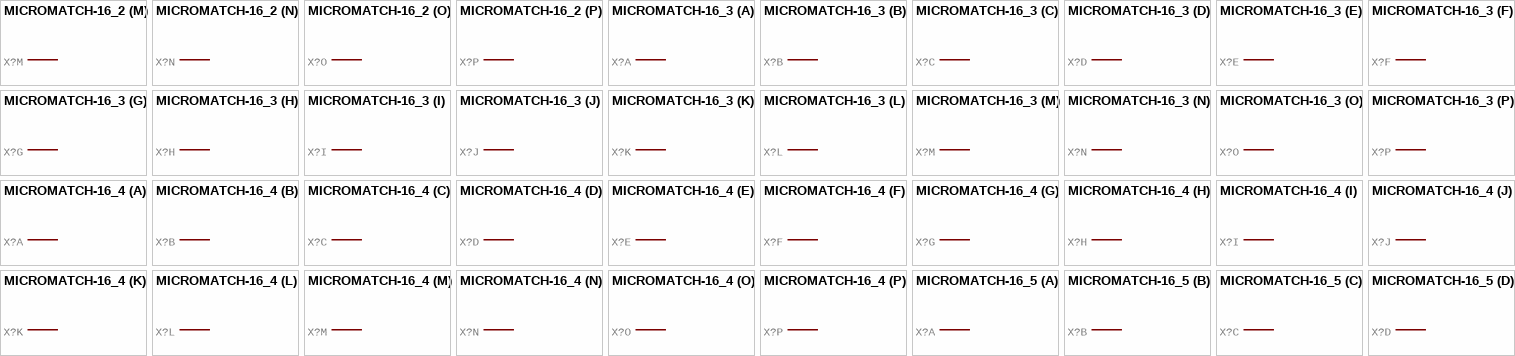
[diagram p15: symbols MICROMATCH-16_2 to MICROMATCH-16_5]